# EAGLE library part DDR-RAM (library debauer_ddr)
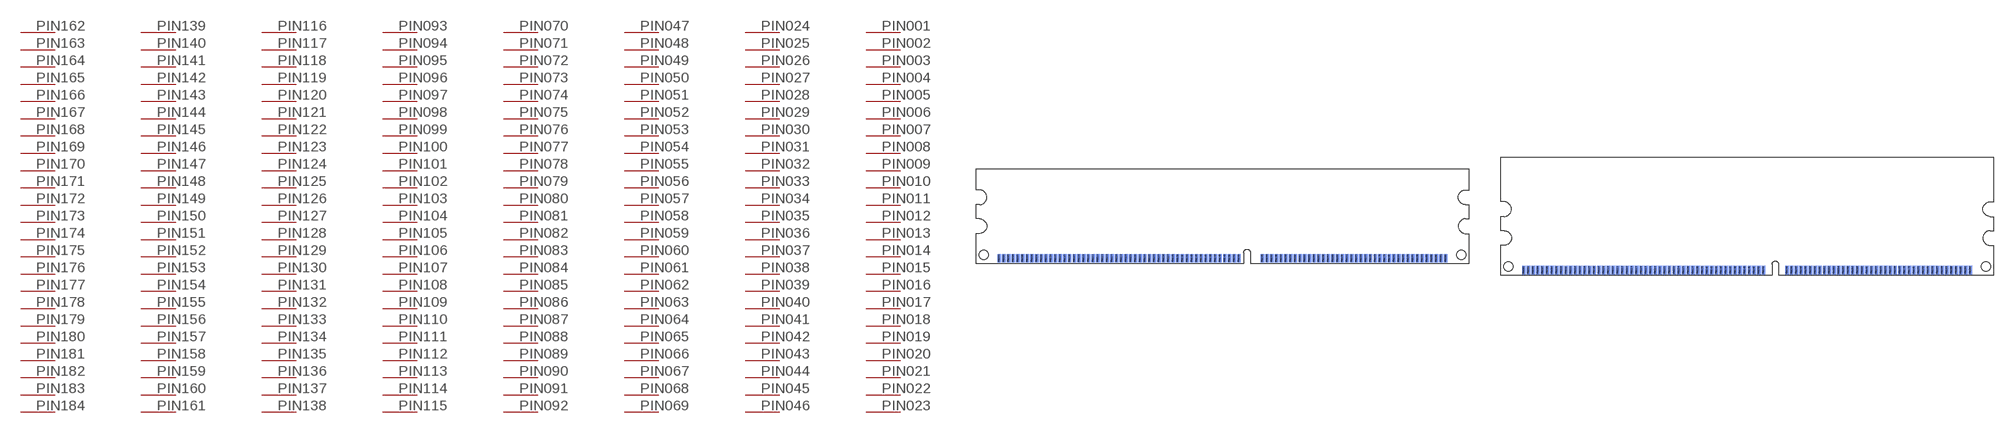
[diagram p0: symbol with the pads of 184PIN-SDRAM-AA; footprints 184PIN-SDRAM-AA, 184PIN-SDRAM-BB]

Designator prefix -; gates G$1=92PIN G$2=92PIN

## DDR-RAMAA  [184PIN-SDRAM-AA]
PIN001  G$1:P$1
PIN002  G$1:P$2
PIN003  G$1:P$3
PIN004  G$1:P$4
PIN005  G$1:P$5
PIN006  G$1:P$6
PIN007  G$1:P$7
PIN008  G$1:P$8
PIN009  G$1:P$9
PIN010  G$1:P$10
PIN011  G$1:P$11
PIN012  G$1:P$12
PIN013  G$1:P$13
PIN014  G$1:P$14
PIN015  G$1:P$15
PIN016  G$1:P$16
PIN017  G$1:P$17
PIN018  G$1:P$18
PIN019  G$1:P$19
PIN020  G$1:P$20
PIN021  G$1:P$21
PIN022  G$1:P$22
PIN023  G$1:P$23
PIN024  G$1:P$24
PIN025  G$1:P$25
PIN026  G$1:P$26
PIN027  G$1:P$27
PIN028  G$1:P$28
PIN029  G$1:P$29
PIN030  G$1:P$30
PIN031  G$1:P$31
PIN032  G$1:P$32
PIN033  G$1:P$33
PIN034  G$1:P$34
PIN035  G$1:P$35
PIN036  G$1:P$36
PIN037  G$1:P$37
PIN038  G$1:P$38
PIN039  G$1:P$39
PIN040  G$1:P$40
PIN041  G$1:P$41
PIN042  G$1:P$42
PIN043  G$1:P$43
PIN044  G$1:P$44
PIN045  G$1:P$45
PIN046  G$1:P$46
PIN047  G$1:P$47
PIN048  G$1:P$48
PIN049  G$1:P$49
PIN050  G$1:P$50
PIN051  G$1:P$51
PIN052  G$1:P$52
PIN053  G$1:P$53
PIN054  G$1:P$54
PIN055  G$1:P$55
PIN056  G$1:P$56
PIN057  G$1:P$57
PIN058  G$1:P$58
PIN059  G$1:P$59
PIN060  G$1:P$60
PIN061  G$1:P$61
PIN062  G$1:P$62
PIN063  G$1:P$63
PIN064  G$1:P$64
PIN065  G$1:P$65
PIN066  G$1:P$66
PIN067  G$1:P$67
PIN068  G$1:P$68
PIN069  G$1:P$69
PIN070  G$1:P$70
PIN071  G$1:P$71
PIN072  G$1:P$72
PIN073  G$1:P$73
PIN074  G$1:P$74
PIN075  G$1:P$75
PIN076  G$1:P$76
PIN077  G$1:P$77
PIN078  G$1:P$78
PIN079  G$1:P$79
PIN080  G$1:P$80
PIN081  G$1:P$81
PIN082  G$1:P$82
PIN083  G$1:P$83
PIN084  G$1:P$84
PIN085  G$1:P$85
PIN086  G$1:P$86
PIN087  G$1:P$87
PIN088  G$1:P$88
PIN089  G$1:P$89
PIN090  G$1:P$90
PIN091  G$1:P$91
PIN092  G$1:P$92
PIN093  G$2:P$1
PIN094  G$2:P$2
PIN095  G$2:P$3
PIN096  G$2:P$4
PIN097  G$2:P$5
PIN098  G$2:P$6
PIN099  G$2:P$7
PIN100  G$2:P$8
PIN101  G$2:P$9
PIN102  G$2:P$10
PIN103  G$2:P$11
PIN104  G$2:P$12
PIN105  G$2:P$13
PIN106  G$2:P$14
PIN107  G$2:P$15
PIN108  G$2:P$16
PIN109  G$2:P$17
PIN110  G$2:P$18
PIN111  G$2:P$19
PIN112  G$2:P$20
PIN113  G$2:P$21
PIN114  G$2:P$22
PIN115  G$2:P$23
PIN116  G$2:P$24
PIN117  G$2:P$25
PIN118  G$2:P$26
PIN119  G$2:P$27
PIN120  G$2:P$28
PIN121  G$2:P$29
PIN122  G$2:P$30
PIN123  G$2:P$31
PIN124  G$2:P$32
PIN125  G$2:P$33
PIN126  G$2:P$34
PIN127  G$2:P$35
PIN128  G$2:P$36
PIN129  G$2:P$37
PIN130  G$2:P$38
PIN131  G$2:P$39
PIN132  G$2:P$40
PIN133  G$2:P$41
PIN134  G$2:P$42
PIN135  G$2:P$43
PIN136  G$2:P$44
PIN137  G$2:P$45
PIN138  G$2:P$46
PIN139  G$2:P$47
PIN140  G$2:P$48
PIN141  G$2:P$49
PIN142  G$2:P$50
PIN143  G$2:P$51
PIN144  G$2:P$52
PIN145  G$2:P$53
PIN146  G$2:P$54
PIN147  G$2:P$55
PIN148  G$2:P$56
PIN149  G$2:P$57
PIN150  G$2:P$58
PIN151  G$2:P$59
PIN152  G$2:P$60
PIN153  G$2:P$61
PIN154  G$2:P$62
PIN155  G$2:P$63
PIN156  G$2:P$64
PIN157  G$2:P$65
PIN158  G$2:P$66
PIN159  G$2:P$67
PIN160  G$2:P$68
PIN161  G$2:P$69
PIN162  G$2:P$70
PIN163  G$2:P$71
PIN164  G$2:P$72
PIN165  G$2:P$73
PIN166  G$2:P$74
PIN167  G$2:P$75
PIN168  G$2:P$76
PIN169  G$2:P$77
PIN170  G$2:P$78
PIN171  G$2:P$79
PIN172  G$2:P$80
PIN173  G$2:P$81
PIN174  G$2:P$82
PIN175  G$2:P$83
PIN176  G$2:P$84
PIN177  G$2:P$85
PIN178  G$2:P$86
PIN179  G$2:P$87
PIN180  G$2:P$88
PIN181  G$2:P$89
PIN182  G$2:P$90
PIN183  G$2:P$91
PIN184  G$2:P$92

## DDR-RAMBB  [184PIN-SDRAM-BB]
Pads as for 184PIN-SDRAM-AA

## DDR-RAMAB  [184PIN-SDRAM-AB]
Pads as for 184PIN-SDRAM-AA

## DDR-RAMBA  [184PIN-SDRAM-BA]
Pads as for 184PIN-SDRAM-AA

## Footprint 184PIN-SDRAM-AA (pad centres in mm)
DDR SDRAM Double Inline Memory Module 184 Pin low Profile 2.5V JEDEC MO-206a
smd 1 x 2.3: PIN001 -60.325,1.35; PIN002 -59.055,1.35; PIN003 -57.785,1.35; PIN004 -56.515,1.35; PIN005 -55.245,1.35; PIN006 -53.975,1.35; PIN007 -52.705,1.35; PIN008 -51.435,1.35; PIN009 -50.165,1.35; PIN010 -48.895,1.35; PIN011 -47.625,1.35; PIN012 -46.355,1.35; PIN013 -45.085,1.35; PIN014 -43.815,1.35; PIN015 -42.545,1.35; PIN016 -41.275,1.35; PIN017 -40.005,1.35; PIN018 -38.735,1.35; PIN019 -37.465,1.35; PIN020 -36.195,1.35; PIN021 -34.925,1.35; PIN022 -33.655,1.35; PIN023 -32.385,1.35; PIN024 -31.115,1.35; PIN025 -29.845,1.35; PIN026 -28.575,1.35; PIN027 -27.305,1.35; PIN028 -26.035,1.35; PIN029 -24.765,1.35; PIN030 -23.495,1.35; PIN031 -22.225,1.35; PIN032 -20.955,1.35; PIN033 -19.685,1.35; PIN034 -18.415,1.35; PIN035 -17.145,1.35; PIN036 -15.875,1.35; PIN037 -14.605,1.35; PIN038 -13.335,1.35; PIN039 -12.065,1.35; PIN040 -10.795,1.35; PIN041 -9.525,1.35; PIN042 -8.255,1.35; PIN043 -6.985,1.35; PIN044 -5.715,1.35; PIN045 -4.445,1.35; PIN046 -3.175,1.35; PIN047 -1.905,1.35; PIN048 -0.635,1.35; PIN049 0.635,1.35; PIN050 1.905,1.35; PIN051 3.175,1.35; PIN052 4.445,1.35; PIN053 10.795,1.35; PIN054 12.065,1.35; PIN055 13.335,1.35; PIN056 14.605,1.35; PIN057 15.875,1.35; PIN058 17.145,1.35; PIN059 18.415,1.35; PIN060 19.685,1.35; PIN061 20.955,1.35; PIN062 22.225,1.35; PIN063 23.495,1.35; PIN064 24.765,1.35; PIN065 26.035,1.35; PIN066 27.305,1.35; PIN067 28.575,1.35; PIN068 29.845,1.35; PIN069 31.115,1.35; PIN070 32.385,1.35; PIN071 33.655,1.35; PIN072 34.925,1.35; PIN073 36.195,1.35; PIN074 37.465,1.35; PIN075 38.735,1.35; PIN076 40.005,1.35; PIN077 41.275,1.35; PIN078 42.545,1.35; PIN079 43.815,1.35; PIN080 45.085,1.35; PIN081 46.355,1.35; PIN082 47.625,1.35; PIN083 48.895,1.35; PIN084 50.165,1.35; PIN085 51.435,1.35; PIN086 52.705,1.35; PIN087 53.975,1.35; PIN088 55.245,1.35; PIN089 56.515,1.35; PIN090 57.785,1.35; PIN091 59.055,1.35; PIN092 60.325,1.35
smd 1 x 2.3 bottom: PIN093 -60.325,1.35; PIN094 -59.055,1.35; PIN095 -57.785,1.35; PIN096 -56.515,1.35; PIN097 -55.245,1.35; PIN098 -53.975,1.35; PIN099 -52.705,1.35; PIN100 -51.435,1.35; PIN101 -50.165,1.35; PIN102 -48.895,1.35; PIN103 -47.625,1.35; PIN104 -46.355,1.35; PIN105 -45.085,1.35; PIN106 -43.815,1.35; PIN107 -42.545,1.35; PIN108 -41.275,1.35; PIN109 -40.005,1.35; PIN110 -38.735,1.35; PIN111 -37.465,1.35; PIN112 -36.195,1.35; PIN113 -34.925,1.35; PIN114 -33.655,1.35; PIN115 -32.385,1.35; PIN116 -31.115,1.35; PIN117 -29.845,1.35; PIN118 -28.575,1.35; PIN119 -27.305,1.35; PIN120 -26.035,1.35; PIN121 -24.765,1.35; PIN122 -23.495,1.35; PIN123 -22.225,1.35; PIN124 -20.955,1.35; PIN125 -19.685,1.35; PIN126 -18.415,1.35; PIN127 -17.145,1.35; PIN128 -15.875,1.35; PIN129 -14.605,1.35; PIN130 -13.335,1.35; PIN131 -12.065,1.35; PIN132 -10.795,1.35; PIN133 -9.525,1.35; PIN134 -8.255,1.35; PIN135 -6.985,1.35; PIN136 -5.715,1.35; PIN137 -4.445,1.35; PIN138 -3.175,1.35; PIN139 -1.905,1.35; PIN140 -0.635,1.35; PIN141 0.635,1.35; PIN142 1.905,1.35; PIN143 3.175,1.35; PIN144 4.445,1.35; PIN145 10.795,1.35; PIN146 12.065,1.35; PIN147 13.335,1.35; PIN148 14.605,1.35; PIN149 15.875,1.35; PIN150 17.145,1.35; PIN151 18.415,1.35; PIN152 19.685,1.35; PIN153 20.955,1.35; PIN154 22.225,1.35; PIN155 23.495,1.35; PIN156 24.765,1.35; PIN157 26.035,1.35; PIN158 27.305,1.35; PIN159 28.575,1.35; PIN160 29.845,1.35; PIN161 31.115,1.35; PIN162 32.385,1.35; PIN163 33.655,1.35; PIN164 34.925,1.35; PIN165 36.195,1.35; PIN166 37.465,1.35; PIN167 38.735,1.35; PIN168 40.005,1.35; PIN169 41.275,1.35; PIN170 42.545,1.35; PIN171 43.815,1.35; PIN172 45.085,1.35; PIN173 46.355,1.35; PIN174 47.625,1.35; PIN175 48.895,1.35; PIN176 50.165,1.35; PIN177 51.435,1.35; PIN178 52.705,1.35; PIN179 53.975,1.35; PIN180 55.245,1.35; PIN181 56.515,1.35; PIN182 57.785,1.35; PIN183 59.055,1.35; PIN184 60.325,1.35

## Footprint 184PIN-SDRAM-BB (pad centres in mm)
DDR SDRAM Double Inline Memory Module 184 Pin normal Profile 1.8V JEDEC MO-206a
smd 1 x 2.3: PIN001 -60.325,1.35; PIN002 -59.055,1.35; PIN003 -57.785,1.35; PIN004 -56.515,1.35; PIN005 -55.245,1.35; PIN006 -53.975,1.35; PIN007 -52.705,1.35; PIN008 -51.435,1.35; PIN009 -50.165,1.35; PIN010 -48.895,1.35; PIN011 -47.625,1.35; PIN012 -46.355,1.35; PIN013 -45.085,1.35; PIN014 -43.815,1.35; PIN015 -42.545,1.35; PIN016 -41.275,1.35; PIN017 -40.005,1.35; PIN018 -38.735,1.35; PIN019 -37.465,1.35; PIN020 -36.195,1.35; PIN021 -34.925,1.35; PIN022 -33.655,1.35; PIN023 -32.385,1.35; PIN024 -31.115,1.35; PIN025 -29.845,1.35; PIN026 -28.575,1.35; PIN027 -27.305,1.35; PIN028 -26.035,1.35; PIN029 -24.765,1.35; PIN030 -23.495,1.35; PIN031 -22.225,1.35; PIN032 -20.955,1.35; PIN033 -19.685,1.35; PIN034 -18.415,1.35; PIN035 -17.145,1.35; PIN036 -15.875,1.35; PIN037 -14.605,1.35; PIN038 -13.335,1.35; PIN039 -12.065,1.35; PIN040 -10.795,1.35; PIN041 -9.525,1.35; PIN042 -8.255,1.35; PIN043 -6.985,1.35; PIN044 -5.715,1.35; PIN045 -4.445,1.35; PIN046 -3.175,1.35; PIN047 -1.905,1.35; PIN048 -0.635,1.35; PIN049 0.635,1.35; PIN050 1.905,1.35; PIN051 3.175,1.35; PIN052 4.445,1.35; PIN053 10.795,1.35; PIN054 12.065,1.35; PIN055 13.335,1.35; PIN056 14.605,1.35; PIN057 15.875,1.35; PIN058 17.145,1.35; PIN059 18.415,1.35; PIN060 19.685,1.35; PIN061 20.955,1.35; PIN062 22.225,1.35; PIN063 23.495,1.35; PIN064 24.765,1.35; PIN065 26.035,1.35; PIN066 27.305,1.35; PIN067 28.575,1.35; PIN068 29.845,1.35; PIN069 31.115,1.35; PIN070 32.385,1.35; PIN071 33.655,1.35; PIN072 34.925,1.35; PIN073 36.195,1.35; PIN074 37.465,1.35; PIN075 38.735,1.35; PIN076 40.005,1.35; PIN077 41.275,1.35; PIN078 42.545,1.35; PIN079 43.815,1.35; PIN080 45.085,1.35; PIN081 46.355,1.35; PIN082 47.625,1.35; PIN083 48.895,1.35; PIN084 50.165,1.35; PIN085 51.435,1.35; PIN086 52.705,1.35; PIN087 53.975,1.35; PIN088 55.245,1.35; PIN089 56.515,1.35; PIN090 57.785,1.35; PIN091 59.055,1.35; PIN092 60.325,1.35
smd 1 x 2.3 bottom: PIN093 -60.325,1.35; PIN094 -59.055,1.35; PIN095 -57.785,1.35; PIN096 -56.515,1.35; PIN097 -55.245,1.35; PIN098 -53.975,1.35; PIN099 -52.705,1.35; PIN100 -51.435,1.35; PIN101 -50.165,1.35; PIN102 -48.895,1.35; PIN103 -47.625,1.35; PIN104 -46.355,1.35; PIN105 -45.085,1.35; PIN106 -43.815,1.35; PIN107 -42.545,1.35; PIN108 -41.275,1.35; PIN109 -40.005,1.35; PIN110 -38.735,1.35; PIN111 -37.465,1.35; PIN112 -36.195,1.35; PIN113 -34.925,1.35; PIN114 -33.655,1.35; PIN115 -32.385,1.35; PIN116 -31.115,1.35; PIN117 -29.845,1.35; PIN118 -28.575,1.35; PIN119 -27.305,1.35; PIN120 -26.035,1.35; PIN121 -24.765,1.35; PIN122 -23.495,1.35; PIN123 -22.225,1.35; PIN124 -20.955,1.35; PIN125 -19.685,1.35; PIN126 -18.415,1.35; PIN127 -17.145,1.35; PIN128 -15.875,1.35; PIN129 -14.605,1.35; PIN130 -13.335,1.35; PIN131 -12.065,1.35; PIN132 -10.795,1.35; PIN133 -9.525,1.35; PIN134 -8.255,1.35; PIN135 -6.985,1.35; PIN136 -5.715,1.35; PIN137 -4.445,1.35; PIN138 -3.175,1.35; PIN139 -1.905,1.35; PIN140 -0.635,1.35; PIN141 0.635,1.35; PIN142 1.905,1.35; PIN143 3.175,1.35; PIN144 4.445,1.35; PIN145 10.795,1.35; PIN146 12.065,1.35; PIN147 13.335,1.35; PIN148 14.605,1.35; PIN149 15.875,1.35; PIN150 17.145,1.35; PIN151 18.415,1.35; PIN152 19.685,1.35; PIN153 20.955,1.35; PIN154 22.225,1.35; PIN155 23.495,1.35; PIN156 24.765,1.35; PIN157 26.035,1.35; PIN158 27.305,1.35; PIN159 28.575,1.35; PIN160 29.845,1.35; PIN161 31.115,1.35; PIN162 32.385,1.35; PIN163 33.655,1.35; PIN164 34.925,1.35; PIN165 36.195,1.35; PIN166 37.465,1.35; PIN167 38.735,1.35; PIN168 40.005,1.35; PIN169 41.275,1.35; PIN170 42.545,1.35; PIN171 43.815,1.35; PIN172 45.085,1.35; PIN173 46.355,1.35; PIN174 47.625,1.35; PIN175 48.895,1.35; PIN176 50.165,1.35; PIN177 51.435,1.35; PIN178 52.705,1.35; PIN179 53.975,1.35; PIN180 55.245,1.35; PIN181 56.515,1.35; PIN182 57.785,1.35; PIN183 59.055,1.35; PIN184 60.325,1.35

## Footprint 184PIN-SDRAM-AB (pad centres in mm)
DDR SDRAM Double Inline Memory Module 184 Pin low Profile 1.8V JEDEC MO-206a
smd 1 x 2.3: PIN001 -60.325,1.35; PIN002 -59.055,1.35; PIN003 -57.785,1.35; PIN004 -56.515,1.35; PIN005 -55.245,1.35; PIN006 -53.975,1.35; PIN007 -52.705,1.35; PIN008 -51.435,1.35; PIN009 -50.165,1.35; PIN010 -48.895,1.35; PIN011 -47.625,1.35; PIN012 -46.355,1.35; PIN013 -45.085,1.35; PIN014 -43.815,1.35; PIN015 -42.545,1.35; PIN016 -41.275,1.35; PIN017 -40.005,1.35; PIN018 -38.735,1.35; PIN019 -37.465,1.35; PIN020 -36.195,1.35; PIN021 -34.925,1.35; PIN022 -33.655,1.35; PIN023 -32.385,1.35; PIN024 -31.115,1.35; PIN025 -29.845,1.35; PIN026 -28.575,1.35; PIN027 -27.305,1.35; PIN028 -26.035,1.35; PIN029 -24.765,1.35; PIN030 -23.495,1.35; PIN031 -22.225,1.35; PIN032 -20.955,1.35; PIN033 -19.685,1.35; PIN034 -18.415,1.35; PIN035 -17.145,1.35; PIN036 -15.875,1.35; PIN037 -14.605,1.35; PIN038 -13.335,1.35; PIN039 -12.065,1.35; PIN040 -10.795,1.35; PIN041 -9.525,1.35; PIN042 -8.255,1.35; PIN043 -6.985,1.35; PIN044 -5.715,1.35; PIN045 -4.445,1.35; PIN046 -3.175,1.35; PIN047 -1.905,1.35; PIN048 -0.635,1.35; PIN049 0.635,1.35; PIN050 1.905,1.35; PIN051 3.175,1.35; PIN052 4.445,1.35; PIN053 10.795,1.35; PIN054 12.065,1.35; PIN055 13.335,1.35; PIN056 14.605,1.35; PIN057 15.875,1.35; PIN058 17.145,1.35; PIN059 18.415,1.35; PIN060 19.685,1.35; PIN061 20.955,1.35; PIN062 22.225,1.35; PIN063 23.495,1.35; PIN064 24.765,1.35; PIN065 26.035,1.35; PIN066 27.305,1.35; PIN067 28.575,1.35; PIN068 29.845,1.35; PIN069 31.115,1.35; PIN070 32.385,1.35; PIN071 33.655,1.35; PIN072 34.925,1.35; PIN073 36.195,1.35; PIN074 37.465,1.35; PIN075 38.735,1.35; PIN076 40.005,1.35; PIN077 41.275,1.35; PIN078 42.545,1.35; PIN079 43.815,1.35; PIN080 45.085,1.35; PIN081 46.355,1.35; PIN082 47.625,1.35; PIN083 48.895,1.35; PIN084 50.165,1.35; PIN085 51.435,1.35; PIN086 52.705,1.35; PIN087 53.975,1.35; PIN088 55.245,1.35; PIN089 56.515,1.35; PIN090 57.785,1.35; PIN091 59.055,1.35; PIN092 60.325,1.35
smd 1 x 2.3 bottom: PIN093 -60.325,1.35; PIN094 -59.055,1.35; PIN095 -57.785,1.35; PIN096 -56.515,1.35; PIN097 -55.245,1.35; PIN098 -53.975,1.35; PIN099 -52.705,1.35; PIN100 -51.435,1.35; PIN101 -50.165,1.35; PIN102 -48.895,1.35; PIN103 -47.625,1.35; PIN104 -46.355,1.35; PIN105 -45.085,1.35; PIN106 -43.815,1.35; PIN107 -42.545,1.35; PIN108 -41.275,1.35; PIN109 -40.005,1.35; PIN110 -38.735,1.35; PIN111 -37.465,1.35; PIN112 -36.195,1.35; PIN113 -34.925,1.35; PIN114 -33.655,1.35; PIN115 -32.385,1.35; PIN116 -31.115,1.35; PIN117 -29.845,1.35; PIN118 -28.575,1.35; PIN119 -27.305,1.35; PIN120 -26.035,1.35; PIN121 -24.765,1.35; PIN122 -23.495,1.35; PIN123 -22.225,1.35; PIN124 -20.955,1.35; PIN125 -19.685,1.35; PIN126 -18.415,1.35; PIN127 -17.145,1.35; PIN128 -15.875,1.35; PIN129 -14.605,1.35; PIN130 -13.335,1.35; PIN131 -12.065,1.35; PIN132 -10.795,1.35; PIN133 -9.525,1.35; PIN134 -8.255,1.35; PIN135 -6.985,1.35; PIN136 -5.715,1.35; PIN137 -4.445,1.35; PIN138 -3.175,1.35; PIN139 -1.905,1.35; PIN140 -0.635,1.35; PIN141 0.635,1.35; PIN142 1.905,1.35; PIN143 3.175,1.35; PIN144 4.445,1.35; PIN145 10.795,1.35; PIN146 12.065,1.35; PIN147 13.335,1.35; PIN148 14.605,1.35; PIN149 15.875,1.35; PIN150 17.145,1.35; PIN151 18.415,1.35; PIN152 19.685,1.35; PIN153 20.955,1.35; PIN154 22.225,1.35; PIN155 23.495,1.35; PIN156 24.765,1.35; PIN157 26.035,1.35; PIN158 27.305,1.35; PIN159 28.575,1.35; PIN160 29.845,1.35; PIN161 31.115,1.35; PIN162 32.385,1.35; PIN163 33.655,1.35; PIN164 34.925,1.35; PIN165 36.195,1.35; PIN166 37.465,1.35; PIN167 38.735,1.35; PIN168 40.005,1.35; PIN169 41.275,1.35; PIN170 42.545,1.35; PIN171 43.815,1.35; PIN172 45.085,1.35; PIN173 46.355,1.35; PIN174 47.625,1.35; PIN175 48.895,1.35; PIN176 50.165,1.35; PIN177 51.435,1.35; PIN178 52.705,1.35; PIN179 53.975,1.35; PIN180 55.245,1.35; PIN181 56.515,1.35; PIN182 57.785,1.35; PIN183 59.055,1.35; PIN184 60.325,1.35

## Footprint 184PIN-SDRAM-BA (pad centres in mm)
DDR SDRAM Double Inline Memory Module 184 Pin normal Profile 2.5V JEDEC MO-206a
smd 1 x 2.3: PIN001 -60.325,1.35; PIN002 -59.055,1.35; PIN003 -57.785,1.35; PIN004 -56.515,1.35; PIN005 -55.245,1.35; PIN006 -53.975,1.35; PIN007 -52.705,1.35; PIN008 -51.435,1.35; PIN009 -50.165,1.35; PIN010 -48.895,1.35; PIN011 -47.625,1.35; PIN012 -46.355,1.35; PIN013 -45.085,1.35; PIN014 -43.815,1.35; PIN015 -42.545,1.35; PIN016 -41.275,1.35; PIN017 -40.005,1.35; PIN018 -38.735,1.35; PIN019 -37.465,1.35; PIN020 -36.195,1.35; PIN021 -34.925,1.35; PIN022 -33.655,1.35; PIN023 -32.385,1.35; PIN024 -31.115,1.35; PIN025 -29.845,1.35; PIN026 -28.575,1.35; PIN027 -27.305,1.35; PIN028 -26.035,1.35; PIN029 -24.765,1.35; PIN030 -23.495,1.35; PIN031 -22.225,1.35; PIN032 -20.955,1.35; PIN033 -19.685,1.35; PIN034 -18.415,1.35; PIN035 -17.145,1.35; PIN036 -15.875,1.35; PIN037 -14.605,1.35; PIN038 -13.335,1.35; PIN039 -12.065,1.35; PIN040 -10.795,1.35; PIN041 -9.525,1.35; PIN042 -8.255,1.35; PIN043 -6.985,1.35; PIN044 -5.715,1.35; PIN045 -4.445,1.35; PIN046 -3.175,1.35; PIN047 -1.905,1.35; PIN048 -0.635,1.35; PIN049 0.635,1.35; PIN050 1.905,1.35; PIN051 3.175,1.35; PIN052 4.445,1.35; PIN053 10.795,1.35; PIN054 12.065,1.35; PIN055 13.335,1.35; PIN056 14.605,1.35; PIN057 15.875,1.35; PIN058 17.145,1.35; PIN059 18.415,1.35; PIN060 19.685,1.35; PIN061 20.955,1.35; PIN062 22.225,1.35; PIN063 23.495,1.35; PIN064 24.765,1.35; PIN065 26.035,1.35; PIN066 27.305,1.35; PIN067 28.575,1.35; PIN068 29.845,1.35; PIN069 31.115,1.35; PIN070 32.385,1.35; PIN071 33.655,1.35; PIN072 34.925,1.35; PIN073 36.195,1.35; PIN074 37.465,1.35; PIN075 38.735,1.35; PIN076 40.005,1.35; PIN077 41.275,1.35; PIN078 42.545,1.35; PIN079 43.815,1.35; PIN080 45.085,1.35; PIN081 46.355,1.35; PIN082 47.625,1.35; PIN083 48.895,1.35; PIN084 50.165,1.35; PIN085 51.435,1.35; PIN086 52.705,1.35; PIN087 53.975,1.35; PIN088 55.245,1.35; PIN089 56.515,1.35; PIN090 57.785,1.35; PIN091 59.055,1.35; PIN092 60.325,1.35
smd 1 x 2.3 bottom: PIN093 -60.325,1.35; PIN094 -59.055,1.35; PIN095 -57.785,1.35; PIN096 -56.515,1.35; PIN097 -55.245,1.35; PIN098 -53.975,1.35; PIN099 -52.705,1.35; PIN100 -51.435,1.35; PIN101 -50.165,1.35; PIN102 -48.895,1.35; PIN103 -47.625,1.35; PIN104 -46.355,1.35; PIN105 -45.085,1.35; PIN106 -43.815,1.35; PIN107 -42.545,1.35; PIN108 -41.275,1.35; PIN109 -40.005,1.35; PIN110 -38.735,1.35; PIN111 -37.465,1.35; PIN112 -36.195,1.35; PIN113 -34.925,1.35; PIN114 -33.655,1.35; PIN115 -32.385,1.35; PIN116 -31.115,1.35; PIN117 -29.845,1.35; PIN118 -28.575,1.35; PIN119 -27.305,1.35; PIN120 -26.035,1.35; PIN121 -24.765,1.35; PIN122 -23.495,1.35; PIN123 -22.225,1.35; PIN124 -20.955,1.35; PIN125 -19.685,1.35; PIN126 -18.415,1.35; PIN127 -17.145,1.35; PIN128 -15.875,1.35; PIN129 -14.605,1.35; PIN130 -13.335,1.35; PIN131 -12.065,1.35; PIN132 -10.795,1.35; PIN133 -9.525,1.35; PIN134 -8.255,1.35; PIN135 -6.985,1.35; PIN136 -5.715,1.35; PIN137 -4.445,1.35; PIN138 -3.175,1.35; PIN139 -1.905,1.35; PIN140 -0.635,1.35; PIN141 0.635,1.35; PIN142 1.905,1.35; PIN143 3.175,1.35; PIN144 4.445,1.35; PIN145 10.795,1.35; PIN146 12.065,1.35; PIN147 13.335,1.35; PIN148 14.605,1.35; PIN149 15.875,1.35; PIN150 17.145,1.35; PIN151 18.415,1.35; PIN152 19.685,1.35; PIN153 20.955,1.35; PIN154 22.225,1.35; PIN155 23.495,1.35; PIN156 24.765,1.35; PIN157 26.035,1.35; PIN158 27.305,1.35; PIN159 28.575,1.35; PIN160 29.845,1.35; PIN161 31.115,1.35; PIN162 32.385,1.35; PIN163 33.655,1.35; PIN164 34.925,1.35; PIN165 36.195,1.35; PIN166 37.465,1.35; PIN167 38.735,1.35; PIN168 40.005,1.35; PIN169 41.275,1.35; PIN170 42.545,1.35; PIN171 43.815,1.35; PIN172 45.085,1.35; PIN173 46.355,1.35; PIN174 47.625,1.35; PIN175 48.895,1.35; PIN176 50.165,1.35; PIN177 51.435,1.35; PIN178 52.705,1.35; PIN179 53.975,1.35; PIN180 55.245,1.35; PIN181 56.515,1.35; PIN182 57.785,1.35; PIN183 59.055,1.35; PIN184 60.325,1.35